# EAGLE library part W5500 (library we-chip)
WIZnet W5500 Ethernet Controller (5V tolerante IOs)
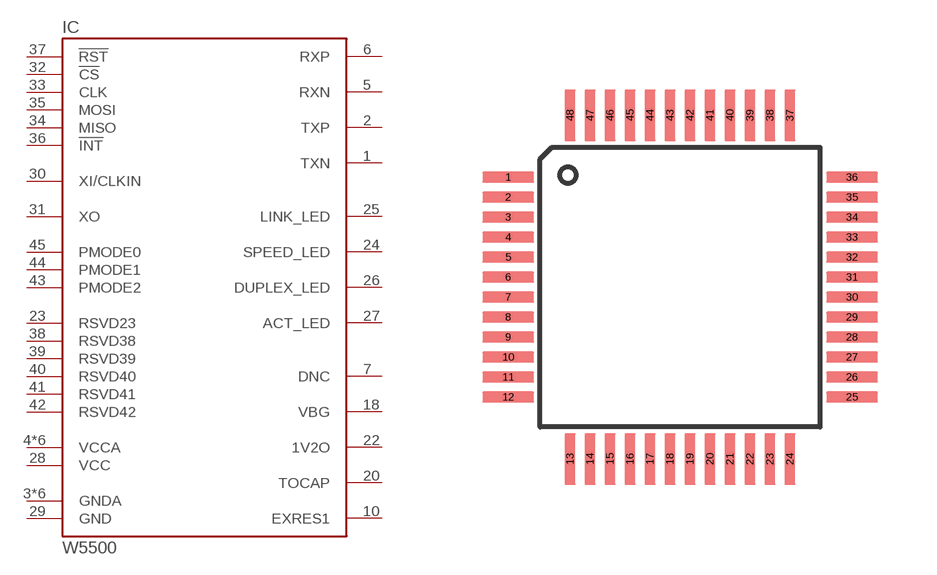
[diagram p26: symbol with the pads of TQFP48; footprint TQFP48]

Designator prefix IC

## W5500  [TQFP48]
1  TXN  pas
2  TXP  pas
3  GNDA  pwr
4  VCCA  pwr
5  RXN  pas
6  RXP  pas
7  DNC  pas
8  VCCA  pwr
9  GNDA  pwr
10  EXRES1  pas
11  VCCA  pwr
14  GNDA  pwr
15  VCCA  pwr
16  GNDA  pwr
17  VCCA  pwr
18  VBG  pas
19  GNDA  pwr
20  TOCAP  pas
21  VCCA  pwr
22  1V2O  pas
23  RSVD23  nc
24  SPEED_LED  out
25  LINK_LED  out
26  DUPLEX_LED  out
27  ACT_LED  out
28  VCC  pwr
29  GND  pwr
30  XI/CLKIN
31  XO
32  !CS  in
33  CLK  in
34  MISO  out
35  MOSI  in
36  !INT  out
37  !RST
38  RSVD38  nc
39  RSVD39  nc
40  RSVD40  nc
41  RSVD41  nc
42  RSVD42  nc
43  PMODE2  in
44  PMODE1  in
45  PMODE0  in
48  GNDA  pwr

## Footprint TQFP48 (pad centres in mm)
smd 1.3 x 0.28: 1 -4.3,2.75; 2 -4.3,2.25; 3 -4.3,1.75; 4 -4.3,1.25; 5 -4.3,0.75; 6 -4.3,0.25; 7 -4.3,-0.25; 8 -4.3,-0.75; 9 -4.3,-1.25; 10 -4.3,-1.75; 11 -4.3,-2.25; 12 -4.3,-2.75; 25 4.3,-2.75; 26 4.3,-2.25; 27 4.3,-1.75; 28 4.3,-1.25; 29 4.3,-0.75; 30 4.3,-0.25; 31 4.3,0.25; 32 4.3,0.75; 33 4.3,1.25; 34 4.3,1.75; 35 4.3,2.25; 36 4.3,2.75
smd 0.28 x 1.3: 13 -2.75,-4.3; 14 -2.25,-4.3; 15 -1.75,-4.3; 16 -1.25,-4.3; 17 -0.75,-4.3; 18 -0.25,-4.3; 19 0.25,-4.3; 20 0.75,-4.3; 21 1.25,-4.3; 22 1.75,-4.3; 23 2.25,-4.3; 24 2.75,-4.3; 37 2.75,4.3; 38 2.25,4.3; 39 1.75,4.3; 40 1.25,4.3; 41 0.75,4.3; 42 0.25,4.3; 43 -0.25,4.3; 44 -0.75,4.3; 45 -1.25,4.3; 46 -1.75,4.3; 47 -2.25,4.3; 48 -2.75,4.3